# Altium integrated library Analog Devices Data Converters Analog-to-Digital Converters.IntLib: 2400 symbols (part 246 of 338)
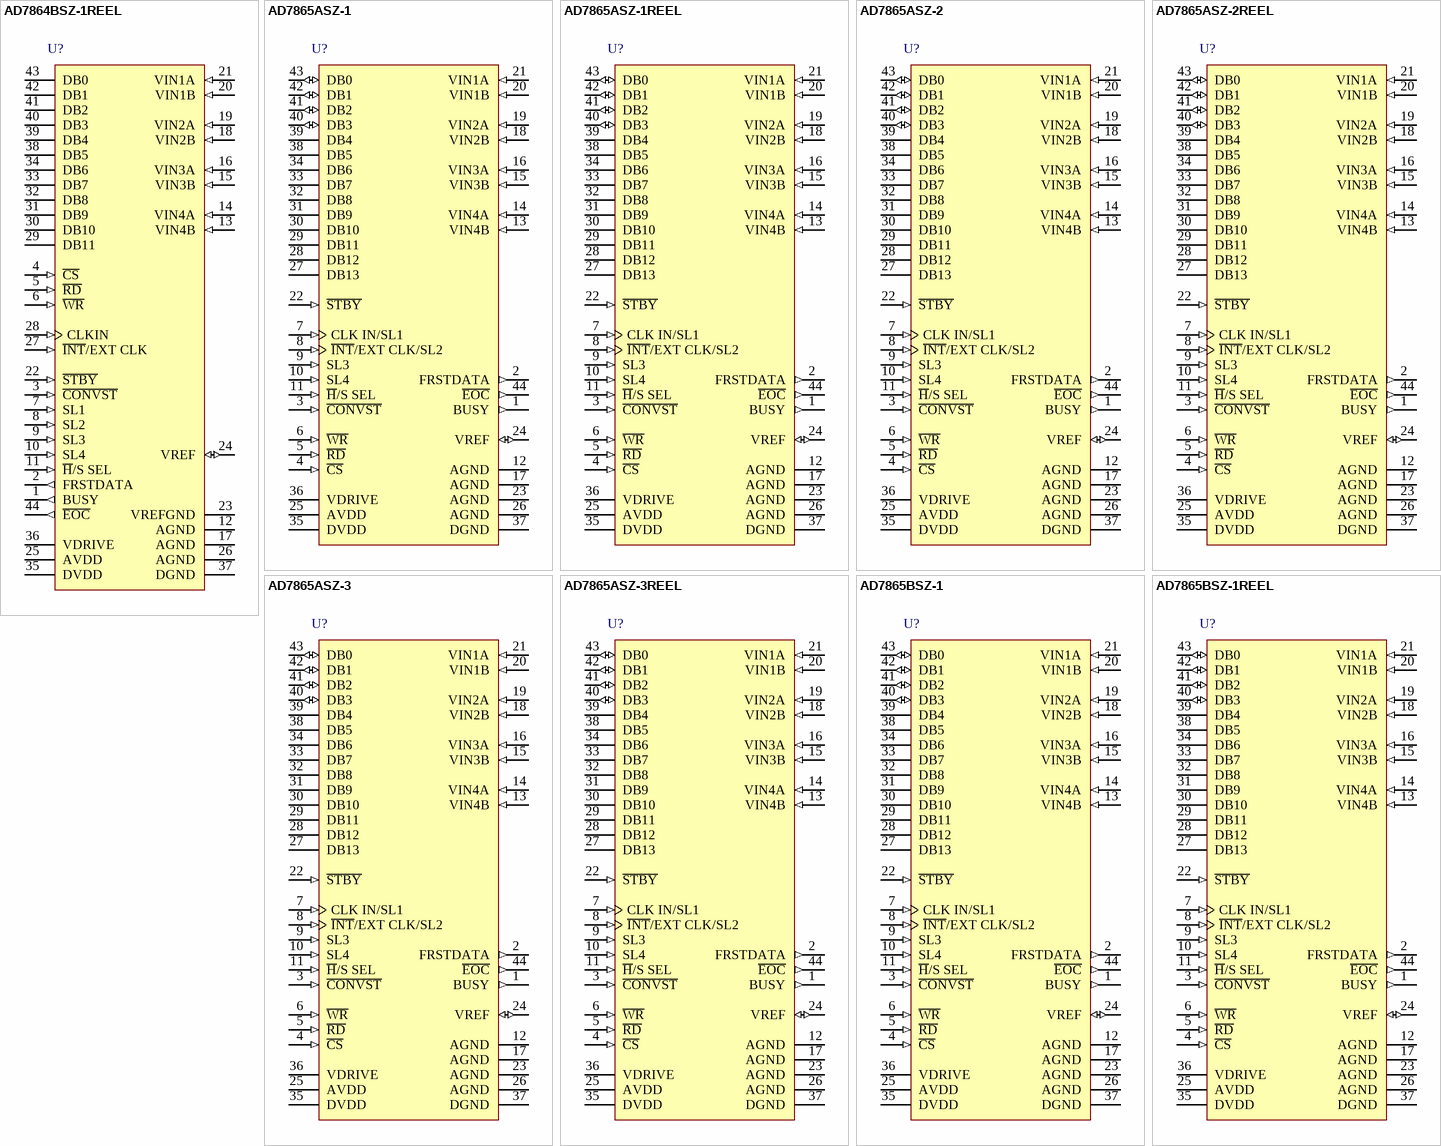
[diagram p388: symbols AD7864BSZ-1REEL to AD7865BSZ-1REEL]

## AD7865BSZ-1REEL
designator U?
Quad 14-Bit Analog-to-Digital Converter with Parallel Interface, Simultaneous Sampling, 350KSPS, -40 to +85 degC, S-44-2, Pb-Free, Reel; Part Number: AD7865; Manufacturer: Analog Devices; Resolution (Bits): 14; Channels: 4; Throughput Rate (SPS): 350K; Interface: Par; DatasheetVersion: Rev.B; PackageVersion: 041807-A; PackageReference: S-44-2; PackageDescription: 44-Lead Metric Quad Flat Package [MQFP]; RoHS: Y; Packing: Reel; Mounting Technology: Surface Mount; Code_JEDEC: MO-122-AA-1; ComponentLink1Description: Manufacturer URL; ComponentLink1URL: http://www.analog.com/en/index.html; ComponentLink2Description: Datasheet; ComponentLink2URL: http://www.analog.com/static/imported-files/data_sheets/AD7865.pdf; ComponentLink3Description: Package Specification; ComponentLink3URL: http://www.analog.com/static/imported-files/packages/209183S_44_2.pdf; ComponentLink4Description: Product URL; ComponentLink4URL: http://www.analog.com/en/analog-to-digital-converters/ad-converters/ad7865/products/product.html
footprint S-44-2_N (QFP, 44-Leads, Body 10x10mm, Pitch 0.8mm, IPC Medium Density)
footprint S-44-2_L (QFP, 44-Leads, Body 10x10mm, Pitch 0.8mm, IPC High Density)
footprint S-44-2_M (QFP, 44-Leads, Body 10x10mm, Pitch 0.8mm, IPC Low Density)
pins: 1 BUSY (out) "Busy Output. The busy output is triggered high by the rising edge of C\O\N\V\S\T\ and remains high until conversion is completed on all selected channels.", 2 FRSTDATA (out) "First Data Output. FRSTDATA is a logic output which, when high, indicates that the Output Data Register Pointer is addressing Register 1--See Accessing the Output Data Registers.", 3 ~{CONVST} (in) "Convert Start Input. Logic Input. A low-to-high transition on this input puts all track/holds into their hold mode and starts conversion on the selected channels. In addition, the state of the Channel Sequence Selection is (See Datasheet)", 4 ~{CS} (in) "Chip Select Input. Active low logic input. The device is selected when this input is active.", 5 ~{RD} (in) "Read Input. Active low logic input which is used in conjunction with C\S\ low to enable the data outputs. Ensure the W\R\ pin is at logic high while performing a read operation.", 6 ~{WR} (in) "Write Input. A rising edge on the W\R\ input, with C\S\ low and R\D\ high, latches the logic state on DB0 to DB3 into the channel select register.", 7 CLK IN/SL1 (in) "Conversion Clock Input/Hardware Channel Select. The function of this pin depends upon the H\/S SEL input. When the H\/S SEL input is high (choosing software control of the channel selection sequence), this pin assumes its (See Datasheet)", 8 ~{INT}/EXT CLK/SL2 (in) "Internal/External Clock/Hardware Channel Select. The function of this pin depends upon the H\/S SEL input. When the H\/S SEL input is high (choosing software control of the channel selection sequence), this pin assumes its (See Datasheet)", 9 SL3 (in) "Hardware Channel Select. When the H\/S SEL input is at Logic 0, the SL3 input determines whether Channel 3 is included in the channel conversion sequence while SL4 determines whether Channel 4 is included in the channel (See Datasheet)", 10 SL4 (in) "Hardware Channel Select. When the H\/S SEL input is at Logic 0, the SL3 input determines whether Channel 3 is included in the channel conversion sequence while SL4 determines whether Channel 4 is included in the channel (See Datasheet)", 11 ~{H}/S SEL (in) "Hardware/Software Select Input. When this pin is at a Logic 0, the AD7865 conversion sequence selection is controlled via the SL1-SL4 input pins and runs off an internal clock. When this pin is at Logic 1, the conversion (See Datasheet)", 12 AGND (power) "Analog Ground. General Analog Ground. This AGND pin should be connected to the system’s AGND plane.", 13 VIN4B (in) "Analog Inputs. See Analog Input section.", 14 VIN4A (in) "Analog Inputs. See Analog Input section.", 15 VIN3B (in) "Analog Inputs. See Analog Input section.", 16 VIN3A (in) "Analog Inputs. See Analog Input section.", 17 AGND (power) "Analog Ground. Analog Ground reference for the attenuator circuitry. This AGND pin should be connected to the system’s AGND plane.", 18 VIN2B (in) "Analog Inputs. See Analog Input section.", 19 VIN2A (in) "Analog Inputs. See Analog Input section.", 20 VIN1B (in) "Analog Inputs. See Analog Input section.", 21 VIN1A (in) "Analog Inputs. See Analog Input section.", 22 ~{STBY} (in) "Standby Mode Input. This pin is used to put the device into the power save or standby mode.The S\T\B\Y\ input is high for normal operation and low for standby operation.", 23 AGND (power) "Analog Ground. General Analog Ground. This AGND pin should be connected to the system’s AGND plane.", 24 VREF (io) "Reference Input/Output. This pin provides access to the internal reference (2.5 V +/- 20 mV) and also allows the internal reference to be overdriven by an external reference source (2.5 V+/- 5%). A 0.1 uF decoupling (See Datasheet)", 25 AVDD (power) "Analog Positive Supply Voltage, 5.0 V +/- 5%. A 0.1 uF decoupling capacitor should be connected between this pin and AGND.", 26 AGND (power) "Analog Ground. General Analog Ground. This AGND pin should be connected to the system’s AGND plane.", 27 DB13 (hiz) "Data Bit 13 is the MSB. Three-state TTL outputs. Output coding is twos complement for AD7865-1 and AD7865-3, and straight binary for AD7865-2.", 28 DB12 (hiz) "Data Bit 12. Three-state TTL outputs. Output coding is twos complement for AD7865-1 and AD7865-3, and straight binary for AD7865-2.", 29 DB11 (hiz) "Data Bit 11. Three-state TTL outputs. Output coding is twos complement for AD7865-1 and AD7865-3, and straight binary for AD7865-2.", 30 DB10 (hiz) "Data Bit 10. Three-state TTL outputs. Output coding is twos complement for AD7865-1 and AD7865-3, and straight binary for AD7865-2.", 31 DB9 (hiz) "Data Bit 9. Three-state TTL outputs. Output coding is twos complement for AD7865-1 and AD7865-3, and straight binary for AD7865-2.", 32 DB8 (hiz) "Data Bit 8. Three-state TTL outputs. Output coding is twos complement for AD7865-1 and AD7865-3, and straight binary for AD7865-2.", 33 DB7 (hiz) "Data Bit 7. Three-state TTL outputs. Output coding is twos complement for AD7865-1 and AD7865-3, and straight binary for AD7865-2.", 34 DB6 (hiz) "Data Bit 6. Three-state TTL outputs. Output coding is twos complement for AD7865-1 and AD7865-3, and straight binary for AD7865-2.", 35 DVDD (power) "Positive Supply Voltage for Digital section, 5.0 V +/- 5%. A 0.1 uF decoupling capacitor should be connected between this pin and AGND. Both DVDD and AVDD should be externally tied together.", 36 VDRIVE (power) "This pin provides the positive supply voltage for the output drivers (DB0 to DB13), BUSY,E\O\C\ and FRSTDATA. It is normally tied to DVDD. VDRIVE should be decoupled with a 0.1 uF capacitor. It allows improved performance (See Datasheet)", 37 DGND (power) "Digital Ground. Ground reference for Digital circuitry. This DGND pin should be connected to the system’s DGND plane. The system’s DGND and AGND planes should be connected together at one point only, preferably at an AGND (See Datasheet)", 38 DB5 (hiz) "Data Bit 5. Three-state TTL outputs.", 39 DB4 (hiz) "Data Bit 4. Three-state TTL outputs.", 40 DB3 (io) "Data Bit 3. Bidirectional data pins. When a read operation takes place, these pins are three-state TTL outputs. The channel select register is programmed with the data on the DB0-DB3 pins with standard C\S\ and W\R\ signals. (See Datasheet)", 41 DB2 (io) "Data Bit 2. Bidirectional data pins. When a read operation takes place, these pins are three-state TTL outputs. The channel select register is programmed with the data on the DB0-DB3 pins with standard C\S\ and W\R\ signals. (See Datasheet)", 42 DB1 (io) "Data Bit 1. Bidirectional data pins. When a read operation takes place, these pins are three-state TTL outputs. The channel select register is programmed with the data on the DB0-DB3 pins with standard C\S\ and W\R\ signals. (See Datasheet)", 43 DB0 (io) "Data Bit 0. Bidirectional data pins. When a read operation takes place, these pins are three-state TTL outputs. The channel select register is programmed with the data on the DB0-DB3 pins with standard C\S\ and W\R\ signals. (See Datasheet)", 44 ~{EOC} (out) "End-of-Conversion. Active low logic output indicating conversion status. The end of each conversion in a conversion sequence is indicated by a low going pulse on this line."

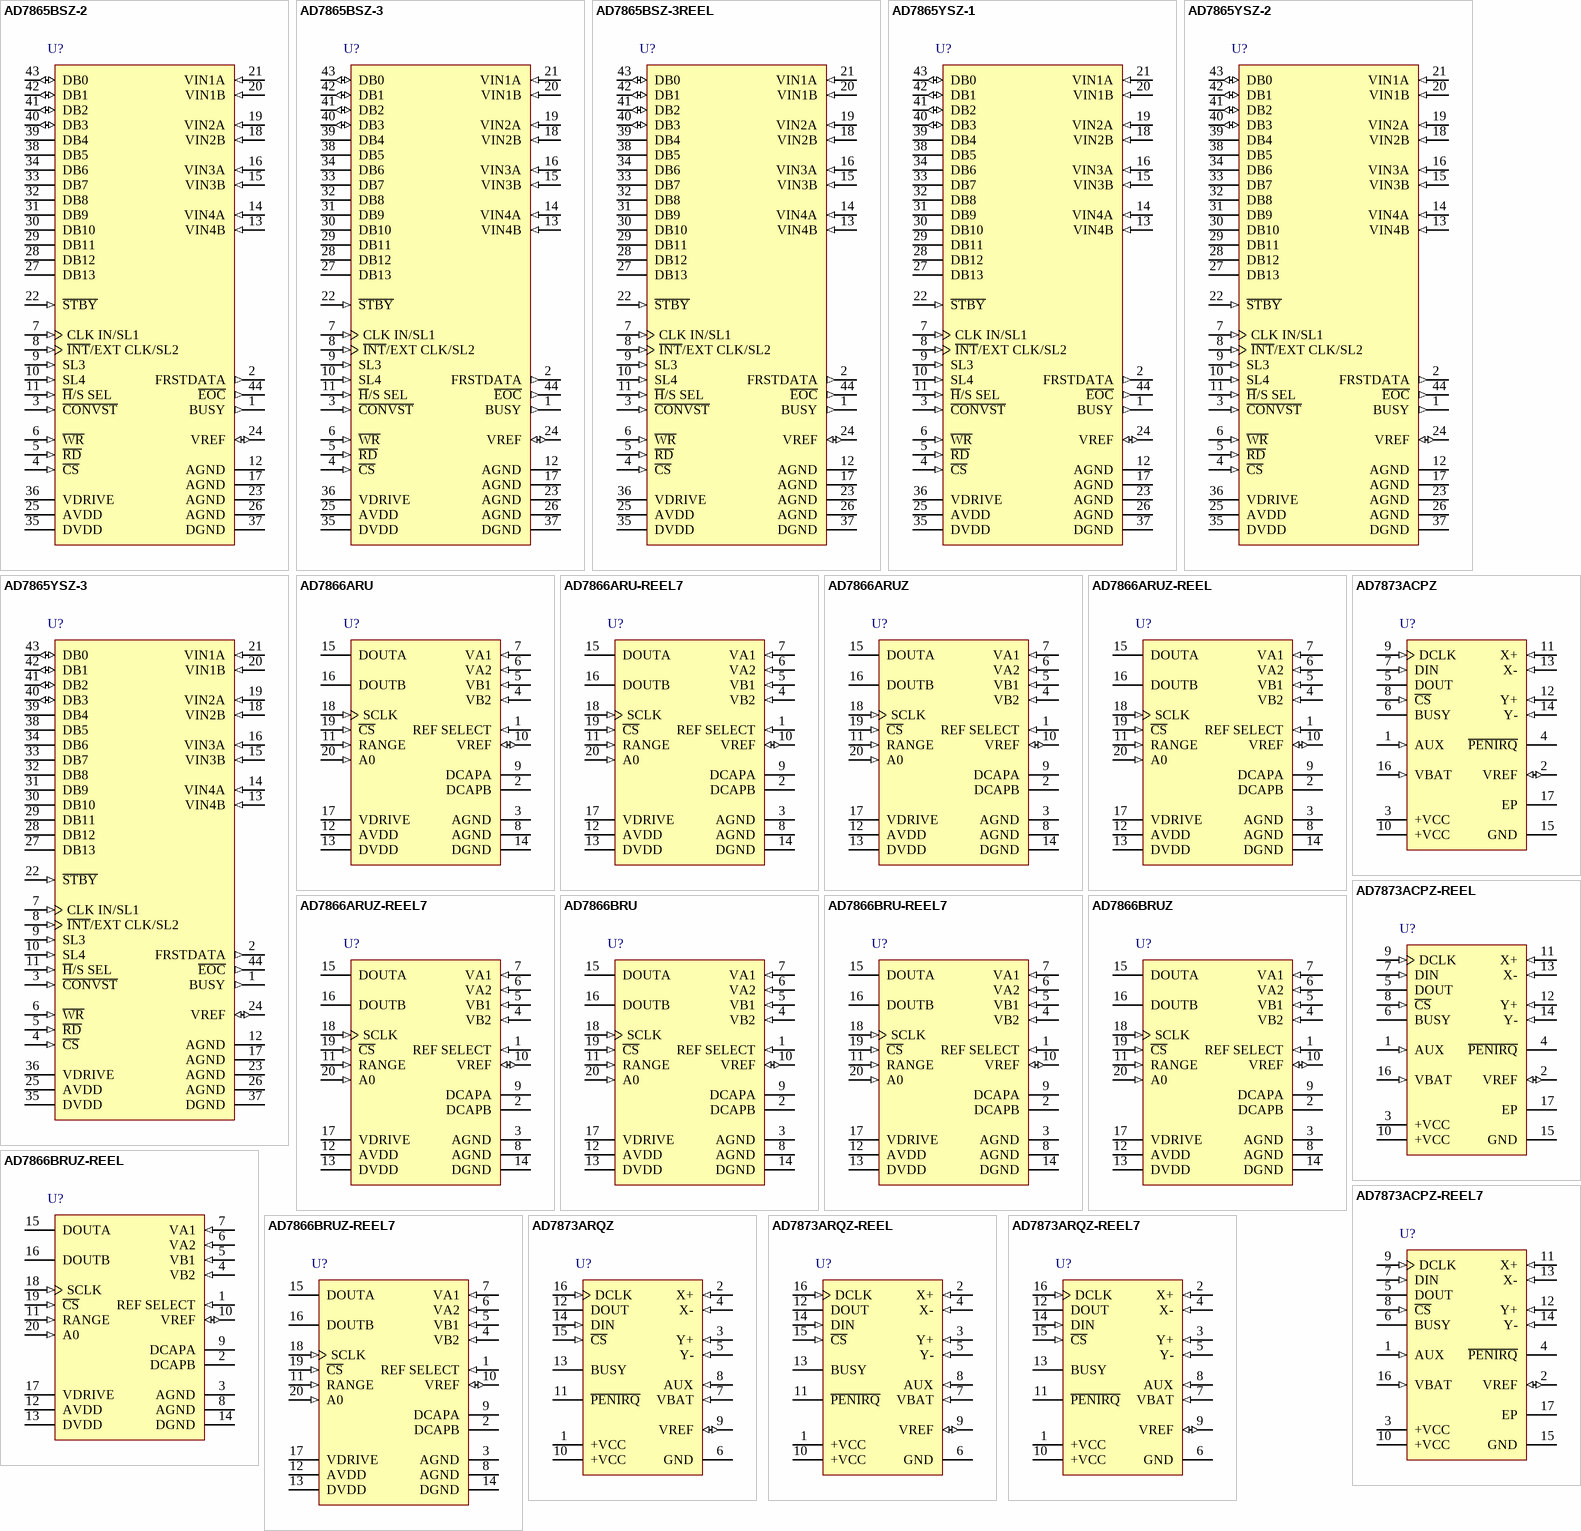
[diagram p76: symbols AD7865BSZ-2 to AD7873ARQZ-REEL7]